# Altium schematic symbol library top.SchLib: 2 symbols
Pins are listed as number, name and electrical type; pins without a type are passive.

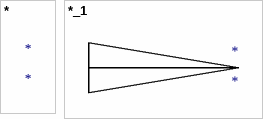
[diagram p0: symbols * to *_1]

## *
designator *

## *_1
designator *